# Altium footprint library PowerSupply.PcbLib: 35 footprints (part 2 of 3)
Each footprint in its own frame and in the unit in brackets; x right, y up, seen from the top. Pads: shape width x height; smd on the part's side, far side on the other; paste and mask are expansions set on the pad; w line width, h text height; cw(c..) or ccw(c..) is an arc to the next point about the centre after c.
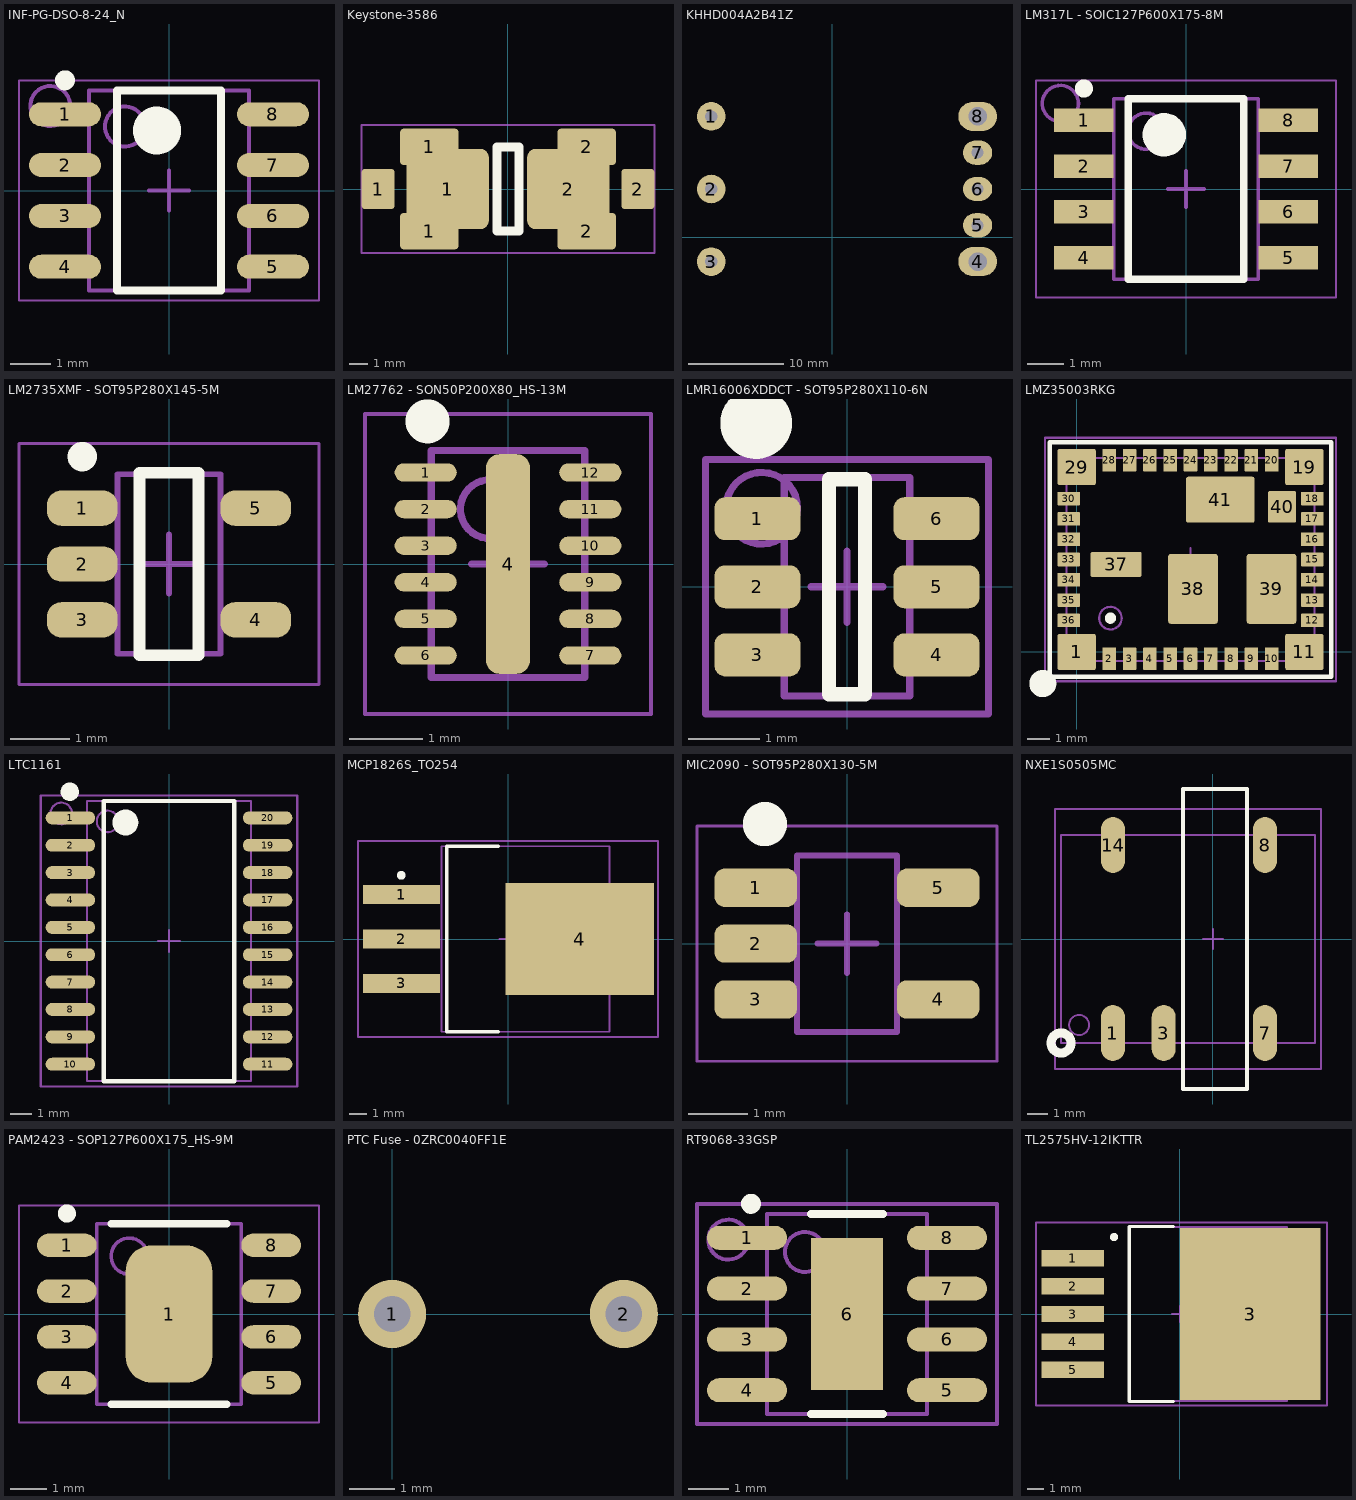
[diagram p1: the footprints below, top view; thin cyan lines are the x and y axes]

## INF-PG-DSO-8-24_N [mm] "SOP, 8-Leads, Body 4.9x3.9mm, Pitch 1.27mm, IPC Medium Density"
height 1.75
pads (8):
  oval 1.8x0.6 smd paste-0.025: 1(-2.6,1.905) 2(-2.6,0.635) 3(-2.6,-0.635) 4(-2.6,-1.905) 5(2.6,-1.905) 6(2.6,-0.635) 7(2.6,0.635) 8(2.6,1.905)
Top Overlay:
  circle w0.25: c-2.6,2.755 r0.125
  circle w0.6: c-0.3,1.5 r0.3
  lines w0.2: -1.3,-2.5 -1.3,2.5 1.3,2.5 1.3,-2.5 -1.3,-2.5
Mechanical 13:
  circle w0.1: c-1.1,1.6 r0.5
  lines w0.1: -2,-2.5 -2,2.5 2,2.5 2,-2.5 -2,-2.5
Mechanical 15:
  lines w0.05: -3.75,-2.75 -3.75,2.75 3.75,2.75 3.75,-2.75 -3.75,-2.75
  lines w0.1: -0.5,0 0.5,0 ; 0,-0.5 0,0.5
Assembly:
  circle w0.1: c-2.967,2.112 r0.5
  lines w0.05: -3.75,-2.75 3.75,-2.75 3.75,2.75 -3.75,2.75 -3.75,-2.75
  text ".Designator" at -2.2,-0.3 h1.1
3D body: height 1.75, standoff 0.1, extent -2,-2.5 2,2.5

## Keystone-3586 [mm] "Mini-ATO fuse holder, 30A. Also compatible with Bel SSQC/SSTC and LittelFuse 154 OMNIBLOK"
pads (8):
  rrect20% 1.8x2.2 smd paste-0.025: 1(-7.1,0) 2(7.1,0)
  rrect20% 3.2x2 smd paste-0.025: 1(-4.3,-2.3) 1(-4.3,2.3) 2(4.3,-2.3) 2(4.3,2.3)
  rrect20% 4.5x4.4 smd paste-0.025: 1(-3.3,0) 2(3.3,0)
Top Overlay:
  lines w0.5: -0.6,-2.3 0.6,-2.3 0.6,2.3 -0.6,2.3 -0.6,-2.3
Assembly:
  lines w0.1: -8,-3.5 8,-3.5 8,3.5 -8,3.5 -8,-3.5
  text ".Designator" at -6.5,-0.5 h3
3D body "Fusibile Lama MINI Type 1.stp": height 16.8, standoff 0.5, extent -5.45,-1.9 5.45,1.9
3D body "keystone-PN3586TR.STEP": height 7.16, standoff 0, extent -7.568,-3.073 -1.701,3.074
3D body "keystone-PN3586TR.STEP": height 7.16, standoff 0, extent 1.666,-3.072 7.534,3.075

## KHHD004A2B41Z [mm] "Isolated DC/DC Converter, 50W Output (5/12V), 18V - 75V Input"
pads (8):
  round 3 hole 1.27: 1(-12.7,12.7) 2(-12.7,5.08) 3(-12.7,-2.54)
  oval 4.064x3.048 hole 1.93: 4(15.24,-2.54) 8(15.24,12.7)
  oval 3.048x2.54 hole 1.27: 5(15.24,1.27) 6(15.24,5.08) 7(15.24,8.89)
Assembly:
  text ".Designator" at -0.93,4.78 h1.1
3D body: height 9.4, standoff 0, extent -15.24,-6.35 17.78,16.51

## LM317L - SOIC127P600X175-8M [mm] "SOIC, 8-Leads, Body 4.90x3.90mm, Pitch 1.27mm, IPC Low Density"
height 1.75
pads (8):
  rect 1.65x0.65 smd paste-0.03: 1(-2.825,1.905) 2(-2.825,0.635) 3(-2.825,-0.635) 4(-2.825,-1.905) 5(2.825,-1.905) 6(2.825,-0.635) 7(2.825,0.635) 8(2.825,1.905)
Top Overlay:
  circle w0.6: c-0.6,1.5 r0.3
  circle w0.25: c-2.825,2.78 r0.125
  lines w0.2: -1.6,-2.5 1.6,-2.5 1.6,2.5 -1.6,2.5 -1.6,-2.5
Mechanical 13:
  circle w0.1: c-1.1,1.6 r0.5
  lines w0.1: -2,-2.5 2,-2.5 2,2.5 -2,2.5 -2,-2.5
Mechanical 15:
  lines w0.05: -4.15,-3 4.15,-3 4.15,3 -4.15,3 -4.15,-3
  lines w0.1: -0.5,0 0.5,0 ; 0,-0.5 0,0.5
Assembly:
  circle w0.1: c-3.475,2.366 r0.5
  text ".Designator" at -2.2,-0.3 h1.1
3D body: height 1.75, standoff 0.1, extent -2,-2.5 2,2.5

## LM2735XMF - SOT95P280X145-5M [mm] "SOT23, 5-Leads, Body 2.90x2.80mm, Pitch 0.95mm, IPC Low Density"
height 1.45
pads (5):
  rrect80% 1.2x0.6 smd paste-0.04: 1(-1.475,0.95) 2(-1.475,0) 3(-1.475,-0.95) 4(1.475,-0.95) 5(1.475,0.95)
Top Overlay:
  circle w0.25: c-1.475,1.825 r0.125
  lines w0.2: -0.5,-1.55 0.5,-1.55 0.5,1.55 -0.5,1.55 -0.5,-1.55
Mechanical 13:
  lines w0.1: -0.875,-1.525 -0.875,1.525 0.875,1.525 0.875,-1.525 -0.875,-1.525
Mechanical 15:
  lines w0.05: -2.55,-2.05 -2.55,2.05 2.55,2.05 2.55,-2.05 -2.55,-2.05
  lines w0.1: -0.5,0 0.5,0 ; 0,-0.5 0,0.5
3D body: height 1.45, standoff 0, extent -0.875,-1.525 0.875,1.525

## LM27762 - SON50P200X80_HS-13M [mm] "SON, 12-Leads, Body 3.00x2.00mm, Pitch 0.50mm, Thermal Pad 2.65x0.79mm, IPC Low Density"
height 0.8
pads (13):
  rrect100% 0.85x0.25 smd paste-99: 1(-1.125,1.25) 2(-1.125,0.75) 3(-1.125,0.25) 4(-1.125,-0.25) 5(-1.125,-0.75) 6(-1.125,-1.25) 7(1.125,-1.25) 8(1.125,-0.75) 9(1.125,-0.25) 10(1.125,0.25) 11(1.125,0.75) 12(1.125,1.25)
  rrect60% 0.6x3 smd paste-99: 4(0,0)
Top Overlay:
  circle w0.5: c-1.1,1.95 r0.05
Top Paste:
  lines w0.23: -1.425,-1.25 -0.975,-1.25 ; -1.425,-0.75 -0.975,-0.75 ; -1.425,-0.25 -0.975,-0.25 ; -1.425,0.25 -0.975,0.25 ; -1.425,0.75 -0.975,0.75 ; -1.425,1.25 -0.975,1.25 ; 0.975,-1.25 1.425,-1.25 ; 0.975,-0.75 1.425,-0.75 ; 0.975,-0.25 1.425,-0.25 ; 0.975,0.25 1.425,0.25 ; 0.975,0.75 1.425,0.75 ; 0.975,1.25 1.425,1.25
  lines w0.3: -0.1,-1.1 0.1,-1.1 0.1,-0.4 -0.1,-0.4 -0.1,-1.1 ; -0.1,0.4 0.1,0.4 0.1,1.1 -0.1,1.1 -0.1,0.4
Mechanical 13:
  circle w0.1: c-0.25,0.75 r0.4
  lines w0.1: -1.05,-1.55 1.05,-1.55 1.05,1.55 -1.05,1.55 -1.05,-1.55
Mechanical 15:
  lines w0.05: -1.955,-2.05 1.955,-2.05 1.955,2.05 -1.955,2.05 -1.955,-2.05
  lines w0.1: -0.5,0 0.5,0 ; 0,-0.5 0,0.5
3D body: height 0.8, standoff 0, extent -1.05,-1.55 1.05,1.55

## LMR16006XDDCT - SOT95P280X110-6N [mm] "SOT23, 6-Leads, Body 3.0x3.0mm (max), Pitch 0.95mm, IPC Medium Density"
height 1.1
pads (6):
  rrect50% 1.2x0.6 smd paste-0.025: 1(-1.25,0.95) 2(-1.25,0) 3(-1.25,-0.95) 4(1.25,-0.95) 5(1.25,0) 6(1.25,0.95)
Top Overlay:
  circle w0.75: c-1.268,2.286 r0.125
  lines w0.2: -0.25,-1.5 0.25,-1.5 0.25,1.5 -0.25,1.5 -0.25,-1.5
Mechanical 13:
  lines w0.1: -0.875,-1.525 -0.875,1.525 0.875,1.525 0.875,-1.525 -0.875,-1.525
Mechanical 15:
  lines w0.1: -0.5,0 0.5,0 ; 0,-0.5 0,0.5 ; -1.975,-1.775 -1.975,1.775 1.975,1.775 1.975,-1.775 -1.975,-1.775
Assembly:
  circle w0.1: c-1.189,1.096 r0.5
  lines w0.1: -1.975,-1.775 1.975,-1.775 1.975,1.775 -1.975,1.775 -1.975,-1.775
  text ".Designator" at -1.778,-0.254 h1.1
3D body: height 1.1, standoff 0, extent -0.875,-1.525 0.875,1.525

## LMZ35003RKG [mm]
height 2.8
pads (41):
  rrect10% 1.7x1.6 smd paste-0.025 mask+0.045: 1(0,0) 11(10.1,0) 19(10.1,8.2) 29(0,8.2)
  rrect10% 0.6x1 smd paste-0.025 mask+0.045: 2(1.45,-0.3) 3(2.35,-0.3) 4(3.25,-0.3) 5(4.15,-0.3) 6(5.05,-0.3) 7(5.95,-0.3) 8(6.85,-0.3) 9(7.75,-0.3) 10(8.65,-0.3) 20(8.65,8.5) 21(7.75,8.5) 22(6.85,8.5) 23(5.95,8.5) 24(5.05,8.5) 25(4.15,8.5) 26(3.25,8.5) 27(2.35,8.5) 28(1.45,8.5)
  rrect10% 1x0.6 smd paste-0.025 mask+0.045: 12(10.45,1.4) 13(10.45,2.3) 14(10.45,3.2) 15(10.45,4.1) 16(10.45,5) 17(10.45,5.9) 18(10.45,6.8) 30(-0.35,6.8) 31(-0.35,5.9) 32(-0.35,5) 33(-0.35,4.1) 34(-0.35,3.2) 35(-0.35,2.3) 36(-0.35,1.4)
  rrect10% 2.25x1.1 smd paste-0.025 mask+0.045: 37(1.75,3.88)
  rrect10% 2.2x3.1 smd paste-0.025 mask+0.045: 38(5.16,2.8) 39(8.64,2.8)
  rrect10% 1.24x1.4 smd paste-0.025 mask+0.045: 40(9.11,6.43)
  rrect10% 3.05x2.04 smd paste-0.025 mask+0.045: 41(6.37,6.75)
Top Overlay:
  circle w0.25: c1.5,1.5 r0.125
  circle w0.6: c-1.5,-1.4 r0.3
  lines w0.2: -1.2,-1.1 -1.2,9.3 11.3,9.3 11.3,-1.1 -1.2,-1.1
Mechanical 13:
  circle w0.1: c1.5,1.5 r0.5
  lines w0.1: -0.45,-0.4 -0.45,8.6 10.55,8.6 10.55,-0.4 -0.45,-0.4
Mechanical 15:
  lines w0.1: 4.55,4.1 5.55,4.1 ; 5.05,3.6 5.05,4.6 ; -1.4,-1.3 -1.4,9.5 11.5,9.5 11.5,-1.3 -1.4,-1.3
Assembly:
  circle w0.1: c-0.173,-0.174 r0.5
  text ".Designator" at 2.626,4.78 h1.1
3D body: height 2.9, standoff 0.05, extent -0.45,-0.4 10.55,8.6

## LTC1161 [mm] "SOP, 20-Leads, Body 13.0x7.6mm (max), Pitch 1.27mm, IPC Medium Density"
height 2.65
pads (20):
  oval 2.3x0.6 smd paste-0.025: 1(-4.575,5.715) 2(-4.575,4.445) 3(-4.575,3.175) 4(-4.575,1.905) 5(-4.575,0.635) 6(-4.575,-0.635) 7(-4.575,-1.905) 8(-4.575,-3.175) 9(-4.575,-4.445) 10(-4.575,-5.715) 11(4.575,-5.715) 12(4.575,-4.445) 13(4.575,-3.175) 14(4.575,-1.905) 15(4.575,-0.635) 16(4.575,0.635) 17(4.575,1.905) 18(4.575,3.175) 19(4.575,4.445) 20(4.575,5.715)
Top Overlay:
  circle w0.6: c-2.025,5.5 r0.3
  lines w0.2: -3.025,-6.5 3.025,-6.5 3.025,6.5 -3.025,6.5 -3.025,-6.5
  lines w0.6: -4.5,7 ccw(c-4.603,6.929) -4.478,6.929
Mechanical 13:
  circle w0.1: c-2.85,5.55 r0.5
  lines w0.1: -3.8,-6.5 3.8,-6.5 3.8,6.5 -3.8,6.5 -3.8,-6.5
Mechanical 15:
  lines w0.1: -0.5,0 0.5,0 ; 0,-0.5 0,0.5 ; -5.95,-6.75 5.95,-6.75 5.95,6.75 -5.95,6.75 -5.95,-6.75
Assembly:
  circle w0.1: c-4.999,5.922 r0.5
  text ".Designator" at -2.2,-0.3 h1.1
3D body: height 2.65, standoff 0.1, extent -3.8,-6.5 3.8,6.5

## MCP1826S_TO254 [mm] "D2-PAK, 4-Pads, Body 9.6x10.6mm (max), IPC Medium Density"
height 4.8
pads (4):
  rect 4.4x1.1 smd paste-0.025: 1(-6.1,2.54) 2(-6.1,0) 3(-6.1,-2.54)
  rect 8.5x6.4 smd paste-0.025: 4(4.1,0)
Top Overlay:
  circle w0.25: c-6.1,3.64 r0.125
  lines w0.2: -0.55,-5.3 -3.5,-5.3 -3.5,5.3 -0.55,5.3
Mechanical 13:
  lines w0.1: -3.8,-5.3 -3.8,5.3 5.8,5.3 5.8,-5.3 -3.8,-5.3
Mechanical 15:
  lines w0.1: -0.5,0 0.5,0 ; 0,-0.5 0,0.5 ; -8.575,-5.6 -8.575,5.6 8.575,5.6 8.575,-5.6 -8.575,-5.6
Assembly:
  text ".Designator" at -2.962,-0.3 h1.1
3D body: height 4.8, standoff 0.1, extent -3.8,-5.3 5.8,5.3

## MIC2090 - SOT95P280X130-5M [mm] "SOT23, 5-Leads, Body 2.90x2.80mm, Pitch 0.95mm, IPC Low Density"
height 1.3
pads (5):
  rrect50% 1.4x0.65 smd paste-0.03 mask+0.085: 1(-1.55,0.95) 2(-1.55,0) 3(-1.55,-0.95) 4(1.55,-0.95) 5(1.55,0.95)
Top Overlay:
  circle w0.5: c-1.397,2.032 r0.125
Mechanical 13:
  lines w0.1: -0.85,-1.5 -0.85,1.5 0.85,1.5 0.85,-1.5 -0.85,-1.5
Mechanical 15:
  lines w0.05: -2.55,-2 -2.55,2 2.55,2 2.55,-2 -2.55,-2
  lines w0.1: -0.5,0 0.5,0 ; 0,-0.5 0,0.5
Assembly:
  text ".Designator" at -2.2,-0.3 h1.1
3D body: height 1.3, standoff 0, extent -0.85,-1.5 0.85,1.5

## NXE1S0505MC [mm]
height 1.75
pads (5):
  oval 1.2x2.8 smd paste-0.03: 1(-5.005,-4.7) 3(-2.465,-4.7) 7(2.6,-4.7) 8(2.6,4.7) 14(-5,4.7)
Top Overlay:
  circle w0.45: c-7.6,-5.2 r0.5
  lines w0.2: -1.5,-7.5 -1.5,7.5 1.7,7.5 1.7,-7.5 -1.5,-7.5
Mechanical 13:
  circle w0.1: c-6.7,-4.3 r0.5
  lines w0.1: -7.6,-5.2 -7.6,5.2 5.1,5.2 5.1,-5.2 -7.6,-5.2
Mechanical 15:
  lines w0.1: -0.5,0 0.5,0 ; 0,-0.5 0,0.5 ; -7.9,-6.5 -7.9,6.5 5.4,6.5 5.4,-6.5 -7.9,-6.5
Assembly:
  text ".Designator" at -2.2,-0.3 h1.1
3D body: height 4.71, standoff 0.1, extent -7.62,-5.2 5.08,5.2

## PAM2423 - SOP127P600X175_HS-9M [mm] "SOP, 8-Leads, Body 4.90x3.90mm, Pitch 1.27mm, Thermal Pad 3.30x2.41mm, IPC Low Density"
height 1.75
pads (9):
  oval 1.65x0.65 smd paste-0.05: 1(-2.825,1.905) 2(-2.825,0.635) 3(-2.825,-0.635) 4(-2.825,-1.905) 5(2.825,-1.905) 6(2.825,-0.635) 7(2.825,0.635) 8(2.825,1.905)
  rrect60% 2.4x3.8 smd paste-0.3: 1(0,0)
Top Overlay:
  circle w0.25: c-2.825,2.78 r0.125
  lines w0.2: -1.6,-2.5 1.6,-2.5 ; -1.6,2.5 1.6,2.5
Mechanical 13:
  circle w0.1: c-1.1,1.6 r0.5
  lines w0.1: -2,-2.5 2,-2.5 2,2.5 -2,2.5 -2,-2.5
Mechanical 15:
  lines w0.05: -4.15,-3 4.15,-3 4.15,3 -4.15,3 -4.15,-3
  lines w0.1: -0.5,0 0.5,0 ; 0,-0.5 0,0.5
3D body: height 1.75, standoff 0.05, extent -2,-2.5 2,2.5

## PTC Fuse - 0ZRC0040FF1E [mm]
height 13.5
pads (2):
  round 1.5 hole 0.8: 1(0,0) 2(5.1,0)
Assembly:
  text ".Designator" at 0.34,-0.3 h1.1
3D body: height 13.49, standoff 5.91, extent -1.285,-1.6 6.285,1.6

## RT9068-33GSP [mm] "SOP, 8-Leads, Body 5.0x4.0mm (max), Pitch 1.27mm, IPC Medium Density"
height 1.753
pads (9):
  oval 2x0.6 smd paste-0.025: 1(-2.5,1.905) 2(-2.5,0.635) 3(-2.5,-0.635) 4(-2.5,-1.905) 5(2.5,-1.905) 6(2.5,-0.635) 7(2.5,0.635) 8(2.5,1.905)
  rect 1.8x3.8 smd paste-0.05: 6(0,0)
Top Overlay:
  circle w0.25: c-2.4,2.755 r0.125
  lines w0.2: -0.9,-2.5 0.9,-2.5 ; -0.9,2.5 0.9,2.5
Mechanical 13:
  circle w0.1: c-1.05,1.55 r0.5
  lines w0.1: -2,-2.5 -2,2.5 2,2.5 2,-2.5 -2,-2.5
Mechanical 15:
  lines w0.1: -0.5,0 0.5,0 ; 0,-0.5 0,0.5 ; -3.75,-2.75 -3.75,2.75 3.75,2.75 3.75,-2.75 -3.75,-2.75
Assembly:
  circle w0.1: c-2.967,1.858 r0.5
  text ".Designator" at -2.2,-0.3 h1.1
3D body: height 1.75, standoff 0.17, extent -2,-2.5 2,2.5

## TL2575HV-12IKTTR [mm]
height 4.83
pads (6):
  rect 3.8x1 smd paste-0.025: 1(-6.55,3.4) 2(-6.55,1.7) 3(-6.55,0) 4(-6.55,-1.7) 5(-6.55,-3.4)
  rect 8.6x10.5 smd paste-0.025: 3(4.3,0)
Top Overlay:
  circle w0.25: c-4.025,4.7 r0.125
  lines w0.2: -0.4,-5.35 -3.1,-5.35 -3.1,5.35 -0.4,5.35
Mechanical 13:
  lines w0.1: -3.1,-5.325 -3.1,5.325 6.55,5.325 6.55,-5.325 -3.1,-5.325
Mechanical 15:
  lines w0.1: -0.5,0 0.5,0 ; 0,-0.5 0,0.5 ; -8.8,-5.6 -8.8,5.6 9,5.6 9,-5.6 -8.8,-5.6
Assembly:
  text ".Designator" at -2.2,-0.3 h1.1
3D body: height 4.83, standoff 0, extent -3.1,-5.325 6.55,5.325